# Altium footprint library PcbLib1.PcbLib: 36 footprints (part 3 of 3)
Each footprint in its own frame and in the unit in brackets; x right, y up, seen from the top. Pads: shape width x height; smd on the part's side, far side on the other; paste and mask are expansions set on the pad; w line width, h text height; cw(c..) or ccw(c..) is an arc to the next point about the centre after c.
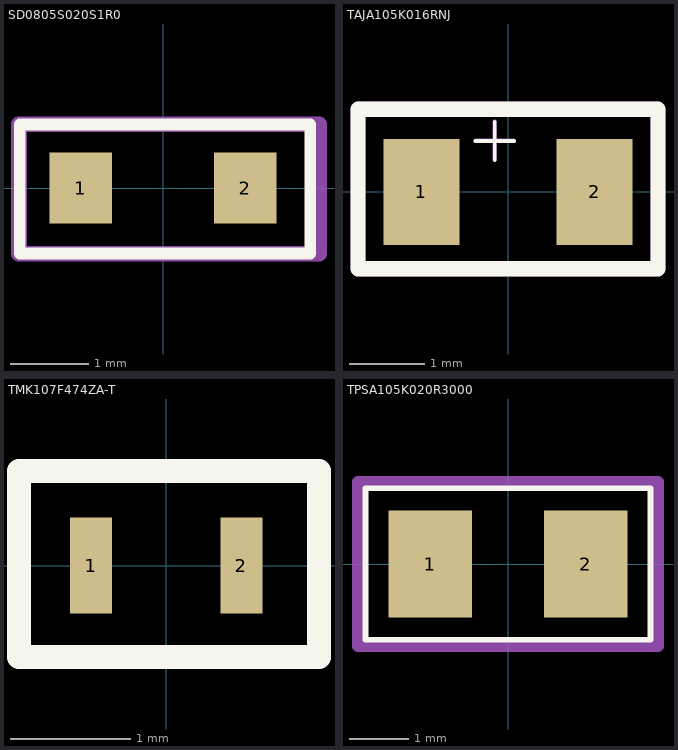
[diagram p2: the footprints below, top view; thin cyan lines are the x and y axes]

## SD0805S020S1R0 [mm]
pads (2):
  rect 0.8x0.9 smd: 1(-1.05,0) 2(1.05,0)
Top Overlay:
  lines w0.152: -1.829,-0.838 1.88,-0.838 1.88,0.813 -1.829,0.813 -1.829,-0.838
Mechanical 29:
  lines w0.2: -1.838,-0.838 1.991,-0.838 1.991,0.813 -1.838,0.813 -1.838,-0.838
  text "'.Designator'" at -1.754,-0.276 h0.7
3D body "SD0805S020S1R0.stp": height 0.8, standoff 0, extent -1.01,-0.65 1.01,0.65

## TAJA105K016RNJ [mm]
pads (2):
  rect 1x1.4 smd: 1(-1.143,0) 2(1.143,0)
Top Overlay:
  lines w0.05: -0.428,0.672 0.08,0.672 ; -0.174,0.418 -0.174,0.926
  lines w0.2: -1.981,-1.016 1.981,-1.016 1.981,1.092 -1.981,1.092 -1.981,-1.016
Mechanical 29:
  lines w0.05: -0.428,0.672 0.08,0.672 ; -0.174,0.418 -0.174,0.926 ; -0.433,0.677 0.075,0.677 -0.433,0.677 ; -0.179,0.423 -0.179,0.931 -0.179,0.423
  lines w0.2: -1.981,-1.016 1.981,-1.016 1.981,1.092 -1.981,1.092 -1.981,-1.016
  text "'.Designator'" at -2.186,-0.302 h0.7
3D body "TAJA_AVX.step": height 1.85, standoff 0, extent -1.702,-0.902 1.702,0.902

## TMK107F474ZA-T [mm]
pads (2):
  rect 0.35x0.8 smd: 1(-0.625,0) 2(0.625,0)
Top Overlay:
  lines w0.2: -1.225,-0.762 1.27,-0.762 1.27,0.787 -1.225,0.787 -1.225,-0.762
Mechanical 29:
  lines w0.2: -1.225,-0.762 1.27,-0.762 1.27,0.787 -1.225,0.787 -1.225,-0.762
  text ".Designator" at -0.814,-0.405 h1
3D body "TMK107F474ZA-T.stp": height 0.81, standoff 0.01, extent -0.8,-0.457 0.8,0.443

## TPSA105K020R3000 [mm]
pads (2):
  rect 1.4x1.8 smd: 1(-1.3,0) 2(1.3,0)
Top Overlay:
  lines w0.1: -2.388,-1.27 2.388,-1.27 2.388,1.27 -2.388,1.27 -2.388,-1.27
Mechanical 29:
  lines w0.2: -2.515,-1.372 -2.515,1.372 2.515,1.372 2.515,-1.372 -2.515,-1.372
  text ".Designator" at -1.675,-0.525 h1.2
3D body "TPSA105K020R3000.STEP": height 1.81, standoff 0.01, extent -1.6,-0.8 1.6,0.8